# EAGLE library part 6_PINES (library Eagle_CAD_parts)
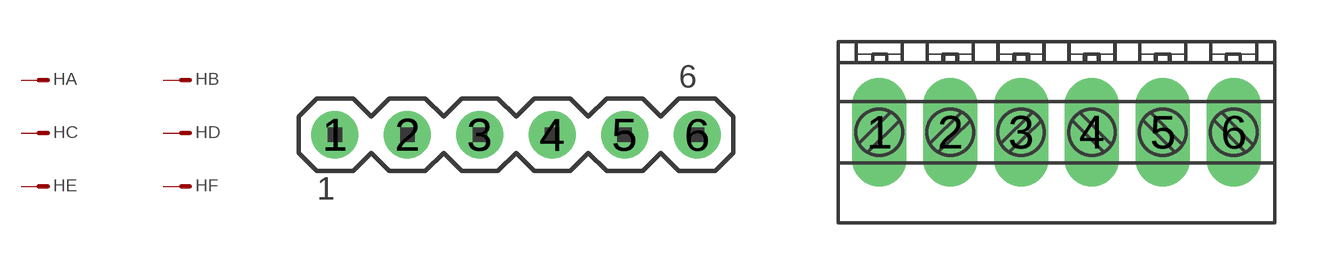
[diagram p38: symbol with the pads of 6_PINES; footprints 6_PINES, 6_PINES_W_SCREW]

Designator prefix H; gates A=PIN_1 B=PIN_1 C=PIN_1 D=PIN_1 E=PIN_1 F=PIN_1

## 6_PINES_WR-PHD (DIGIKEY_PART_NUMBER: 732-5319-ND; I: 3 A; MANUFACTURER_PART_NUMBER: 61300611121; V: 250 V)  [6_PINES]
1  A:S  pas
2  B:S  pas
3  C:S  pas
4  D:S  pas
5  E:S  pas
6  F:S  pas

## 6_PINES_OSTVN (DIGIKEY_PART_NUMBER: ED10565-ND; I: 6 A; MANUFACTURER_PART_NUMBER: OSTVN06A150; V: 125 V)  [6_PINES_W_SCREW]
Pads as for 6_PINES

## 6_PINES_NC (DIGIKEY_PART_NUMBER: NC/DNM; I: 3 A; MANUFACTURER_PART_NUMBER: NC/DNM; MOUSER_PART_NUMBER: NC/DNM; V: 250 V)  [6_PINES]
Pads as for 6_PINES

## 6_PINES_SCS_F (DIGIKEY_PART_NUMBER: S7039-ND; I: 3 A; MANUFACTURER_PART_NUMBER: PPPC061LFBN-RC; V: 250 V)  [6_PINES_6F1C_F]
Pads as for 6_PINES

## 6_PINES_WR-PHD_2F (DIGIKEY_PART_NUMBER: 732-5295-ND; I: 3 A; MANUFACTURER_PART_NUMBER: 61300621121; V: 250 V)  [6_PINES_3F2C]
Pads as for 6_PINES

## Footprint 6_PINES (pad centres in mm)
drill 1.1: 1 -6.35,0; 2 -3.81,0; 3 -1.27,0; 4 1.27,0; 5 3.81,0; 6 6.35,0

## Footprint 6_PINES_W_SCREW (pad centres in mm)
drill 1.3 long: 1 -6.35,0; 2 -3.81,0; 3 -1.27,0; 4 1.27,0; 5 3.81,0; 6 6.35,0

## Footprint 6_PINES_6F1C_F (pad centres in mm)
drill 1.1: 1 -6.35,0; 2 -3.81,0; 3 -1.27,0; 4 1.27,0; 5 3.81,0; 6 6.35,0

## Footprint 6_PINES_3F2C (pad centres in mm)
drill 1.1: 1 -2.54,-1.27; 2 -2.54,1.27; 3 0,-1.27; 4 0,1.27; 5 2.54,-1.27; 6 2.54,1.27